# Altium schematic symbol library EMG_Frozen_Placed_R4.SchLib: 153 symbols (part 1 of 3)
Pins are listed as number, name and electrical type; pins without a type are passive.

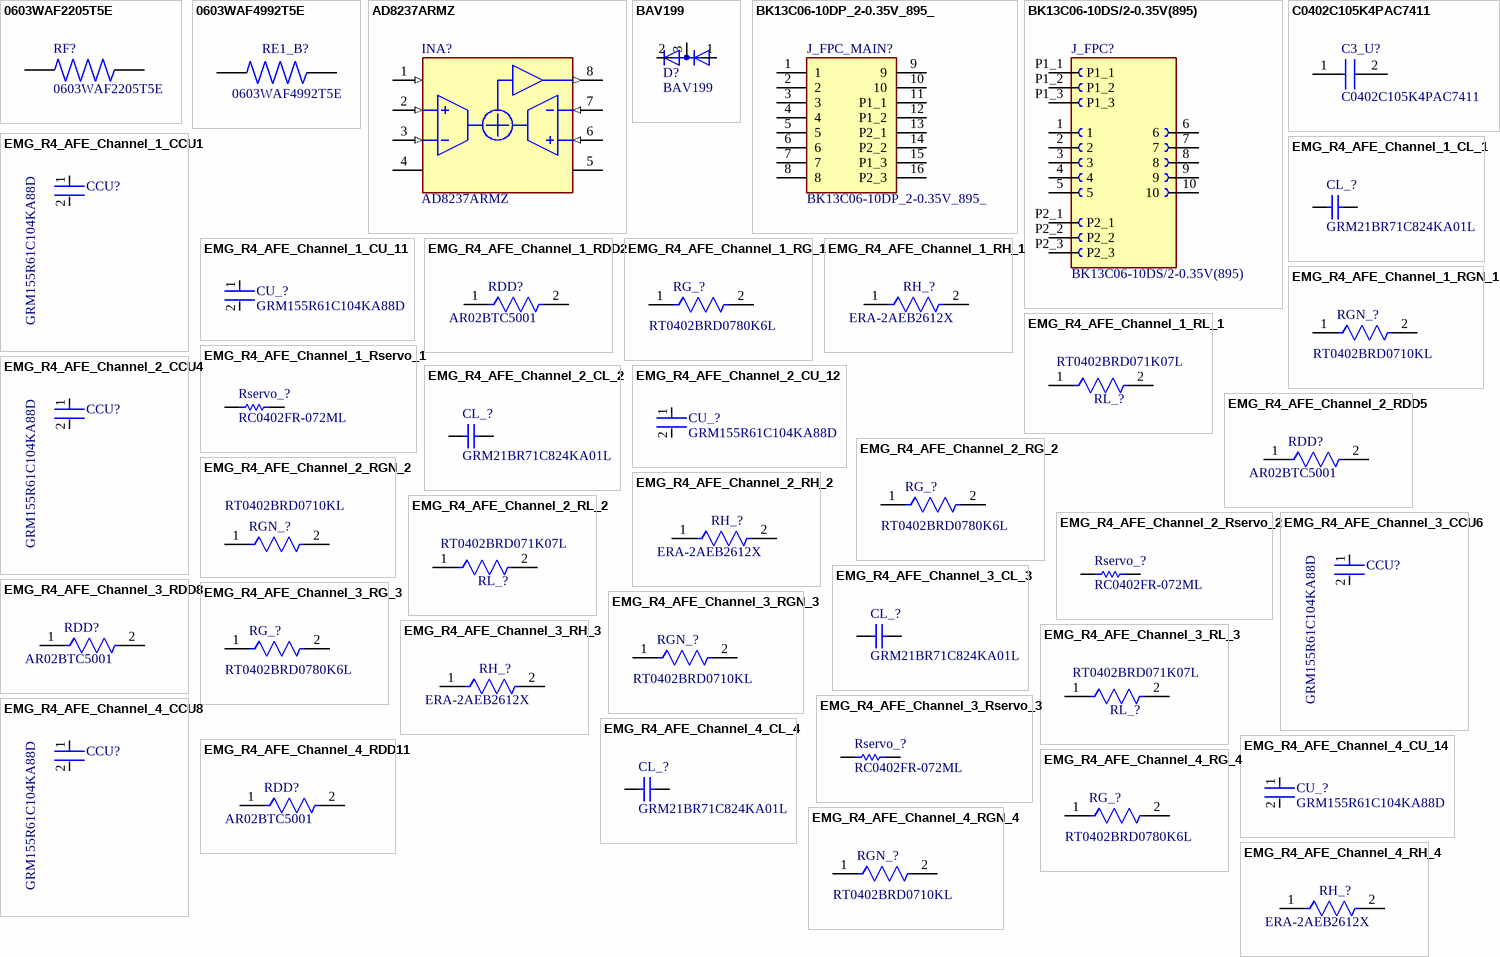
[diagram p0: symbols 0603WAF2205T5E to EMG_R4_AFE_Channel_4_RH_4]

## 0603WAF2205T5E
designator RF?
22M Ohm 1/10W Thick Film Resistor 0603 Chip - Surface Mount; MF: Uni-Royal; SnapEDA_Link: https://www.snapeda.com/parts/0603WAF2205T5E/Uni-Royal/view-part/?ref=snap; Package: 0603-2 ROYAL; Value: *; MP: 0603WAF2205T5E; Check_prices: https://www.snapeda.com/parts/0603WAF2205T5E/Uni-Royal/view-part/?ref=eda
footprint RESC1608X55N
pins: 1, 2

## 0603WAF4992T5E
designator RE1_B?
49.9K Ohm 1/10W Thick Film Resistor 0603 Chip - Surface Mount; MF: Uni-Royal; Package: None; Value: *; SnapEDA_Link: https://www.snapeda.com/parts/0603WAF4992T5E/Uni-Royal/view-part/?ref=snap; MP: 0603WAF4992T5E; Check_prices: https://www.snapeda.com/parts/0603WAF4992T5E/Uni-Royal/view-part/?ref=eda
footprint RESC1608X55N
pins: 1, 2

## AD8237ARMZ
designator INA?
Micropower, Zero Drift, True Rail-to-Rail Instrumentation Amplifier; MF: Analog Devices; EMG Library Revision: R3 2026-09-12; EMG_AD8237_R3_MSOP8; numeric pad IDs 1-8; Package: MSOP-8 Analog Devices; Price: None; Check_prices: https://www.snapeda.com/parts/AD8237ARMZ/Analog+Devices/view-part/?ref=eda; Value: *; SnapEDA_Link: https://www.snapeda.com/parts/AD8237ARMZ/Analog+Devices/view-part/?ref=snap; MP: AD8237ARMZ; Availability: In Stock; Purchase-URL: https://pricing.snapeda.com/search?q=AD8237ARMZ&ref=eda
footprint EMG_AD8237_R3_MSOP8 (R3 numeric pins 1-8; frozen project-local footprint; source geometry preserved)
pins: 1 BW (in), 2 +IN (in), 3 -IN (in), 4 -VS (power), 5 +VS (power), 6 REF (in), 7 FB (in), 8 VOUT (out)

## BAV199
designator D?
Small Signal Diode, SOT-23, 85V, 0.14A, 150Â°C; MF: Diotec Semiconductor; SnapEDA_Link: https://www.snapeda.com/parts/BAV199/Diotec/view-part/?ref=snap; Package: SOT-23 Diotec; Value: *; MP: BAV199; Check_prices: https://www.snapeda.com/parts/BAV199/Diotec/view-part/?ref=eda
footprint SOT23
pins: 1 A, 2 C, 3 AC

## BK13C06-10DP_2-0.35V_895_
designator J_FPC_MAIN?
Connector; Manufacturer_Name: Hirose; Manufacturer_Part_Number: BK13C06-10DP/2-0.35V(895); EMG Assembly Contract: Documentation/BK13_ASSEMBLY_CONTRACT.md; x-preserving face-to-face mate at BOTH ends; mechanical key required; Datasheet Link: https://www.hirose.com/en/product/document?clcode=CL0480-0719-0-95&productname=BK13C06-10DP%2f2-0.35V(895)&series=BK13C&documenttype=2DDrawing&lang=en&documentid=BK13C06-10DP2-0.35V(895)_4800719095_2D_ENG; Height: 0.575mm; Mouser Part Number: 798-BK13C0610DP35V89; Mouser Price/Stock: https://www.mouser.co.uk/ProductDetail/Hirose-Connector/BK13C06-10DP-2-0.35V895?qs=TuK3vfAjtkXiT58Jgwe%252BSA%3D%3D
footprint BK13C0610DP2035V895
pins: 1, 2, 3, 4, 5, 6, 7, 8, 9, 10, 11 P1_1, 12 P1_2, 13 P2_1, 14 P2_2, 15 P1_3, 16 P2_3

## BK13C06-10DS/2-0.35V(895)
designator J_FPC?
10 Position Connector Receptacle, Center Strip Contacts Surface Mount Gold; MF: Hirose Electric Co Ltd; SnapEDA_Link: https://www.snapeda.com/parts/BK13C06-10DS/2-0.35V(895)/Hirose+Electric+Co+Ltd/view-part/?ref=snap; Package: None; Value: *; MP: BK13C06-10DS/2-0.35V(895); Check_prices: https://www.snapeda.com/parts/BK13C06-10DS/2-0.35V(895)/Hirose+Electric+Co+Ltd/view-part/?ref=eda
footprint HIROSE_BK13C06-10DS/2-0.35V(895)
pins: 1, 2, 3, 4, 5, 6, 7, 8, 9, 10, P1_1 (power), P1_2 (power), P1_3 (power), P2_1 (power), P2_2 (power), P2_3 (power)

## C0402C105K4PAC7411
designator C3_U?
Capacitor; Manufacturer_Name: Yageo Group; Datasheet Link: https://content.kemet.com/datasheets/KEM_C1006_X5R_SMD.pdf; Height: 0.55mm; Manufacturer_Part_Number: C0402C105K4PAC7411; Mouser Part Number: 80-C0402C105K4P7411; Mouser Price/Stock: https://www.mouser.co.uk/ProductDetail/KEMET/C0402C105K4PAC7411?qs=rrS6PyfT74cOkAIybpa4eA%3D%3D
footprint C0402
pins: 1, 2

## EMG_R4_AFE_Channel_1_CCU1
designator CCU?, comment GRM155R61C104KA88D
CAP CER 0.1UF 16V X5R 0402; Tolerance: 10%; Capacitance: 100nF; Size: 0.5mm; Case Code (Imperial): 0402; Voltage: 16V; REACH SVHC: No SVHC; Packaging: Tape and Reel; Case/Package: 0402; Package Quantity: 1; Max Operating Temperature: 85°C; Voltage Rating (DC): 16V; Min Operating Temperature: -55°C; Construction: Flat; Mount: Surface Mount; Voltage Rating: 16V; Thickness: 0.022inch; Depth: 0.5mm; Termination: SMD/SMT; Length: 1mm; Height: 0.5mm; Series: GRM; Radiation Hardening: No; Width: 0.02inch; RoHS Compliant: Yes; Lead Free: Lead Free; Case Code (Metric): 1005; Dielectric: X5R
footprint FP-GRM155-0_05-IPC_C
footprint FP-GRM155-0_05-MFG
footprint FP-GRM155-0_05-IPC_B
footprint FP-GRM155-0_05-IPC_A
pins: 1, 2

## EMG_R4_AFE_Channel_1_CL_1
designator CL_?, comment GRM21BR71C824KA01L
Manufacturer: Murata; Part Number: GRM21BR71C824KA01L
footprint CAPC2013X135X45ML10T25 (Chip Capacitor, 2-Leads, Body 2.00x1.25mm, IPC Low Density)
footprint CAPC2013X135X45NL10T25 (Chip Capacitor, 2-Leads, Body 2.00x1.25mm, IPC Medium Density)
footprint CAPC2013X135X45LL10T25 (Chip Capacitor, 2-Leads, Body 2.00x1.25mm, IPC High Density)
pins: 1, 2
1 alternate drawing of the same symbol

## EMG_R4_AFE_Channel_1_CU_11
designator CU_?, comment GRM155R61C104KA88D
CAP CER 0.1UF 16V X5R 0402; Tolerance: 10%; Capacitance: 100nF; Size: 0.5mm; Case Code (Imperial): 0402; Voltage: 16V; REACH SVHC: No SVHC; Packaging: Tape and Reel; Case/Package: 0402; Package Quantity: 1; Max Operating Temperature: 85°C; Voltage Rating (DC): 16V; Min Operating Temperature: -55°C; Construction: Flat; Mount: Surface Mount; Voltage Rating: 16V; Thickness: 0.022inch; Depth: 0.5mm; Termination: SMD/SMT; Length: 1mm; Height: 0.5mm; Series: GRM; Radiation Hardening: No; Width: 0.02inch; RoHS Compliant: Yes; Lead Free: Lead Free; Case Code (Metric): 1005; Dielectric: X5R
footprint FP-GRM155-0_05-IPC_C
footprint FP-GRM155-0_05-MFG
footprint FP-GRM155-0_05-IPC_B
footprint FP-GRM155-0_05-IPC_A
pins: 1, 2

## EMG_R4_AFE_Channel_1_RDD2
designator RDD?, comment AR02BTC5001
-55℃~+155℃ 50V 5kΩ 63mW Thin Film Resistor ±0.1% ±25ppm/℃ 0402 Chip Resistor - Surface Mount ROH; Manufacturer: Viking Tech; Automotive Grade: Grade 0; Power Rating: 0.0625W; Resistance: 5KΩ; Automotive: No; Device Class L1: Passive Components; Temperature Range High: +155°C; ComponentLink2URL: https://jlc-prod-smt.oss-eu-central-1.aliyuncs.com/smtDataManualFile/8590916455515316224-C5948099.pdf?response-content-disposition=attachment%3B%20filename%3DC5948099.pdf%3B%20filename%2A%3DUTF-8%27%27C5948099.pdf&x-oss-date=20260909T005947Z&x-oss-expires=1800&x-oss-security-token=CAISgAN1q6Ft5B2yfSjIr5nQJuPk2K1px%2FCSUlD8vWssT%2Bdn24bA1Tz2IHhMdHJsAOodtv0%2FmmhT6PkclqRLcbhpcmfjV%2BZHzLB8qZ1ZlUIh557b16cNrbH4M4H6aXeirtuwDsz9SNTCALjPD3nPii50x5bjaDymRCbLGJaViJlhHLN1Ow6jdmhpCctxLAlvo9NgFxm3D%2Fu2NQPwiWf9FVdhvhEG6Vly8qOi2MaRmFy8yFTx0b0SvJ%2BjYMrmPctoN9JnSdC5mfdzau3a1TJ84gRD0a5wkaVA1zbDs5bfISEIuUzebreLqY03dV4mOvdqIcMe8qigz88fk%2FfIioH6xyxKOexoSCnFTOiiupCcQLPyao9jLu6iayqViY7QaIOTqQohZmkAMwVOasAsI3Ngh4zF97Qt0cVNkXO9gWfLI8DtuMleWgprSuQcm6HD0eS19jklBdzSlusJRAJJUVBflCeKEaRNSAd3WGhEfM2%2BBt4QT30w5N2u00S8OSMIGkRi2qKWD5sagAEjtbizx3MEky1DLyI4ifPDwN%2BIGIBkc%2FLU5ksiYJgLb%2FNSRKcBK2Y93tAQPnNnijpN7M2WdzU5isSZKkB7FW67%2B%2BgPO4c85aP9mk4GMQu9DUgOdQx8TAqhYZ0He9sP4T3tbQJlqCjO4glvV5R4tQYQWhzj0BeDLU%2Bxt0Bz2hoMLyAA&x-oss-signature-version=OSS4-HMAC-SHA256&x-oss-credential=STS.NZemYP5rHp2yPvMYkyChK4Ck7%2F20260909%2Feu-central-1%2Foss%2Faliyun_v4_request&x-oss-signature=d33844123a8227daea884b89a46460a2c851f65fd65a6a4b3f09a43ff9b63656; Footprint Url: https://jlc-prod-smt.oss-eu-central-1.aliyuncs.com/smtDataManualFile/8590916455515316224-C5948099.pdf?response-content-disposition=attachment%3B%20filename%3DC5948099.pdf%3B%20filename%2A%3DUTF-8%27%27C5948099.pdf&x-oss-date=20260909T005947Z&x-oss-expires=1800&x-oss-security-token=CAISgAN1q6Ft5B2yfSjIr5nQJuPk2K1px%2FCSUlD8vWssT%2Bdn24bA1Tz2IHhMdHJsAOodtv0%2FmmhT6PkclqRLcbhpcmfjV%2BZHzLB8qZ1ZlUIh557b16cNrbH4M4H6aXeirtuwDsz9SNTCALjPD3nPii50x5bjaDymRCbLGJaViJlhHLN1Ow6jdmhpCctxLAlvo9NgFxm3D%2Fu2NQPwiWf9FVdhvhEG6Vly8qOi2MaRmFy8yFTx0b0SvJ%2BjYMrmPctoN9JnSdC5mfdzau3a1TJ84gRD0a5wkaVA1zbDs5bfISEIuUzebreLqY03dV4mOvdqIcMe8qigz88fk%2FfIioH6xyxKOexoSCnFTOiiupCcQLPyao9jLu6iayqViY7QaIOTqQohZmkAMwVOasAsI3Ngh4zF97Qt0cVNkXO9gWfLI8DtuMleWgprSuQcm6HD0eS19jklBdzSlusJRAJJUVBflCeKEaRNSAd3WGhEfM2%2BBt4QT30w5N2u00S8OSMIGkRi2qKWD5sagAEjtbizx3MEky1DLyI4ifPDwN%2BIGIBkc%2FLU5ksiYJgLb%2FNSRKcBK2Y93tAQPnNnijpN7M2WdzU5isSZKkB7FW67%2B%2BgPO4c85aP9mk4GMQu9DUgOdQx8TAqhYZ0He9sP4T3tbQJlqCjO4glvV5R4tQYQWhzj0BeDLU%2Bxt0Bz2hoMLyAA&x-oss-signature-version=OSS4-HMAC-SHA256&x-oss-credential=STS.NZemYP5rHp2yPvMYkyChK4Ck7%2F20260909%2Feu-central-1%2Foss%2Faliyun_v4_request&x-oss-signature=d33844123a8227daea884b89a46460a2c851f65fd65a6a4b3f09a43ff9b63656; RoHS: TRUE; Category: Resistors/Chip Resistor - Surface Mount; Package: AR0402; Octopart: https://octopart.com/datasheet/viking-tech/AR02BTC5001; Device Class L2: Resistors; Series: AR; Voltage Rating: 50V; Height: 0.35mm; ComponentLink2Description: Datasheet; Lead Free: Yes; Temperature Range Low: -55°C; Value: 5KΩ; Temperature: -55°C to +155°C; Ipc Land Pattern Name: RESC10050X32; Device Class L3: Chip SMD Resistors; Manufacturer Part Number: AR02BTC5001; Composition: Thick Film; Tolerance: ±0.1%; LCSC Part: C5948099
footprint FP-AC0402-MFG
footprint FP-AC0402-IPC_C
footprint FP-AC0402-IPC_B
footprint FP-AC0402-IPC_A
pins: 1, 2

## EMG_R4_AFE_Channel_1_RG_1
designator RG_?, comment RT0402BRD0780K6L
RES SMD 80.6KOHM 0.1% 1/16W 0402; Manufacturer: Yageo; Power Rating: 0.063W; Temperature Coefficient: 25 ppm/°C; Resistance: 80.6KΩ; Voltage Rating: 50V; Tolerance: 0.001; Value: 80.6KΩ; Manufacturer Part Number: RT0402BRD0780K6L; Device Class L2: Resistors; Temperature Range Low: -55°C; Device Class L3: Chip SMD Resistors; Temperature: -55°C to +155°C; Ipc Land Pattern Name: RESC10050X30; Mouser Description: Thin Film Resistors 1/16W 80.6K ohm .1% 25ppm; Footprint Url: http://www.yageo.com/exep/pages/download/literatures/PYu-R_Mount_10.pdf; Lead Free: Yes; Category: Res; Composition: Thin Film; RoHS: TRUE; Octopart: https://octopart.com/rt0402brd0780k6l-yageo-1468076; Automotive: No; ComponentLink2Description: Datasheet; Package: RT0402; Digikey Description: RES SMD 80.6KOHM 0.1% 1/16W 0402; Height: 0.35mm; Temperature Range High: +155°C; Device Class L1: Passive Components; Series: RT; ComponentLink2URL: http://www.yageo.com/documents/recent/PYu-RT_1-to-0.01_RoHS_L_9.pdf
footprint FP-RT0402-MFG
footprint FP-RT0402-IPC_C
footprint FP-RT0402-IPC_B
footprint FP-RT0402-IPC_A
pins: 1, 2

## EMG_R4_AFE_Channel_1_RGN_1
designator RGN_?, comment RT0402BRD0710KL
RES 10.0K OHM 1/16W .1% SMD 0402; Manufacturer: Yageo; Value: 10KΩ; Voltage Rating: 50V; Power Rating: 0.063W; Temperature Coefficient: 25 ppm/°C; Tolerance: 0.001; Height: 0.35mm; Ipc Land Pattern Name: RESC10050X30; Device Class L1: Passive Components; Mouser Description: Thin Film Resistors - SMD 10K ohm 0.1% 1/16W; ComponentLink2URL: http://www.yageo.com/documents/recent/PYu-RT_1-to-0.01_RoHS_L_9.pdf; Automotive: No; Series: RT; Package: RT0402; ComponentLink2Description: Datasheet; Footprint Url: http://www.yageo.com/exep/pages/download/literatures/PYu-R_Mount_10.pdf; Digikey Description: RES 10.0K OHM 1/16W .1% SMD 0402; Resistance: 10KΩ; Temperature Range High: +155°C; Device Class L3: Chip SMD Resistors; Manufacturer Part Number: RT0402BRD0710KL; Lead Free: Yes; Category: Res; Device Class L2: Resistors; RoHS: TRUE; Temperature Range Low: -55°C; Composition: Thin Film; Temperature: -55°C to +155°C; Octopart: https://octopart.com/rt0402brd0710kl-yageo-1181432
footprint FP-RT0402-MFG
footprint FP-RT0402-IPC_C
footprint FP-RT0402-IPC_B
footprint FP-RT0402-IPC_A
pins: 1, 2

## EMG_R4_AFE_Channel_1_RH_1
designator RH_?, comment ERA-2AEB2612X
RES 26.1kΩ ±0.1% 0.063W 0402; Manufacturer: PANASONIC; Max Power Dissipation: 63mW; Temperature Coefficient: 25ppm/°C; Voltage Rating: 50V; Power Rating: 62.5mW; Resistance: 26.1kR; Number of Terminations: 2; Termination: SMD/SMT; Case Code (Metric): 1005; Case/Package: 0402; RoHS Compliant: Yes; Width: 0.5mm; Max Operating Temperature: 155°C; Case Code (Imperial): 0402; Packaging: Tape and Reel; Features: Moisture Resistant; Height: 0.015inch; Length: 0.039inch; Series: ERA-2A; Resistor Type: Thin Film; Min Operating Temperature: -55°C; Tolerance: 0.1%; JLCPCB Part: C2075472
footprint FP-AC0402-IPC_A
footprint FP-AC0402-IPC_C
footprint FP-AC0402-MFG
footprint FP-AC0402-IPC_B
pins: 1, 2

## EMG_R4_AFE_Channel_1_RL_1
designator RL_?, comment RT0402BRD071K07L
RES SMD 1.07K OHM 0.1% 1/16W; Manufacturer: Yageo; Resistance: 1.07KΩ; Voltage Rating: 50V; Value: 1.07KΩ; Temperature Coefficient: 25 ppm/°C; Tolerance: 0.001; Power Rating: 0.063W; Composition: Thin Film; Height: 0.35mm; Octopart: https://octopart.com/rt0402brd071k07l-yageo-1400807; Package: RT0402; Device Class L3: Chip SMD Resistors; Manufacturer Part Number: RT0402BRD071K07L; ComponentLink2Description: Datasheet; Lead Free: Yes; Automotive: No; Device Class L1: Passive Components; Temperature Range Low: -55°C; RoHS: TRUE; Category: Res; Temperature Range High: +155°C; Mouser Description: Thin Film Resistors 1/16W 1.07K ohm .1% 25ppm; Device Class L2: Resistors; Digikey Description: RES SMD 1.07K OHM 0.1% 1/16W; Footprint Url: http://www.yageo.com/exep/pages/download/literatures/PYu-R_Mount_10.pdf; ComponentLink2URL: http://www.yageo.com/documents/recent/PYu-RT_1-to-0.01_RoHS_L_9.pdf; Ipc Land Pattern Name: RESC10050X30; Series: RT; Temperature: -55°C to +155°C
footprint FP-RT0402-MFG
footprint FP-RT0402-IPC_C
footprint FP-RT0402-IPC_B
footprint FP-RT0402-IPC_A
pins: 1, 2

## EMG_R4_AFE_Channel_1_Rservo_1
designator Rservo_?, comment RC0402FR-072ML
Manufacturer: Yageo / Phycomp; Part Number: RC0402FR-072ML
footprint RESC1005X40X25NL05T10 (Chip Resistor, 2-Leads, Body 1.00x0.50mm, IPC Medium Density)
footprint RESC1005X40X25LL05T10 (Chip Resistor, 2-Leads, Body 1.00x0.50mm, IPC High Density)
footprint RESC1005X40X25ML05T10 (Chip Resistor, 2-Leads, Body 1.00x0.50mm, IPC Low Density)
pins: 1, 2
1 alternate drawing of the same symbol

## EMG_R4_AFE_Channel_2_CCU4
designator CCU?, comment GRM155R61C104KA88D
CAP CER 0.1UF 16V X5R 0402; Tolerance: 10%; Capacitance: 100nF; Size: 0.5mm; Case Code (Imperial): 0402; Voltage: 16V; REACH SVHC: No SVHC; Packaging: Tape and Reel; Case/Package: 0402; Package Quantity: 1; Max Operating Temperature: 85°C; Voltage Rating (DC): 16V; Min Operating Temperature: -55°C; Construction: Flat; Mount: Surface Mount; Voltage Rating: 16V; Thickness: 0.022inch; Depth: 0.5mm; Termination: SMD/SMT; Length: 1mm; Height: 0.5mm; Series: GRM; Radiation Hardening: No; Width: 0.02inch; RoHS Compliant: Yes; Lead Free: Lead Free; Case Code (Metric): 1005; Dielectric: X5R
footprint FP-GRM155-0_05-IPC_C
footprint FP-GRM155-0_05-MFG
footprint FP-GRM155-0_05-IPC_B
footprint FP-GRM155-0_05-IPC_A
pins: 1, 2

## EMG_R4_AFE_Channel_2_CL_2
designator CL_?, comment GRM21BR71C824KA01L
Manufacturer: Murata; Part Number: GRM21BR71C824KA01L
footprint CAPC2013X135X45ML10T25 (Chip Capacitor, 2-Leads, Body 2.00x1.25mm, IPC Low Density)
footprint CAPC2013X135X45NL10T25 (Chip Capacitor, 2-Leads, Body 2.00x1.25mm, IPC Medium Density)
footprint CAPC2013X135X45LL10T25 (Chip Capacitor, 2-Leads, Body 2.00x1.25mm, IPC High Density)
pins: 1, 2
1 alternate drawing of the same symbol

## EMG_R4_AFE_Channel_2_CU_12
designator CU_?, comment GRM155R61C104KA88D
CAP CER 0.1UF 16V X5R 0402; Tolerance: 10%; Capacitance: 100nF; Size: 0.5mm; Case Code (Imperial): 0402; Voltage: 16V; REACH SVHC: No SVHC; Packaging: Tape and Reel; Case/Package: 0402; Package Quantity: 1; Max Operating Temperature: 85°C; Voltage Rating (DC): 16V; Min Operating Temperature: -55°C; Construction: Flat; Mount: Surface Mount; Voltage Rating: 16V; Thickness: 0.022inch; Depth: 0.5mm; Termination: SMD/SMT; Length: 1mm; Height: 0.5mm; Series: GRM; Radiation Hardening: No; Width: 0.02inch; RoHS Compliant: Yes; Lead Free: Lead Free; Case Code (Metric): 1005; Dielectric: X5R
footprint FP-GRM155-0_05-IPC_C
footprint FP-GRM155-0_05-MFG
footprint FP-GRM155-0_05-IPC_B
footprint FP-GRM155-0_05-IPC_A
pins: 1, 2

## EMG_R4_AFE_Channel_2_RDD5
designator RDD?, comment AR02BTC5001
-55℃~+155℃ 50V 5kΩ 63mW Thin Film Resistor ±0.1% ±25ppm/℃ 0402 Chip Resistor - Surface Mount ROH; Manufacturer: Viking Tech; Automotive Grade: Grade 0; Power Rating: 0.0625W; Resistance: 5KΩ; Automotive: No; Device Class L1: Passive Components; Temperature Range High: +155°C; ComponentLink2URL: https://jlc-prod-smt.oss-eu-central-1.aliyuncs.com/smtDataManualFile/8590916455515316224-C5948099.pdf?response-content-disposition=attachment%3B%20filename%3DC5948099.pdf%3B%20filename%2A%3DUTF-8%27%27C5948099.pdf&x-oss-date=20260909T005947Z&x-oss-expires=1800&x-oss-security-token=CAISgAN1q6Ft5B2yfSjIr5nQJuPk2K1px%2FCSUlD8vWssT%2Bdn24bA1Tz2IHhMdHJsAOodtv0%2FmmhT6PkclqRLcbhpcmfjV%2BZHzLB8qZ1ZlUIh557b16cNrbH4M4H6aXeirtuwDsz9SNTCALjPD3nPii50x5bjaDymRCbLGJaViJlhHLN1Ow6jdmhpCctxLAlvo9NgFxm3D%2Fu2NQPwiWf9FVdhvhEG6Vly8qOi2MaRmFy8yFTx0b0SvJ%2BjYMrmPctoN9JnSdC5mfdzau3a1TJ84gRD0a5wkaVA1zbDs5bfISEIuUzebreLqY03dV4mOvdqIcMe8qigz88fk%2FfIioH6xyxKOexoSCnFTOiiupCcQLPyao9jLu6iayqViY7QaIOTqQohZmkAMwVOasAsI3Ngh4zF97Qt0cVNkXO9gWfLI8DtuMleWgprSuQcm6HD0eS19jklBdzSlusJRAJJUVBflCeKEaRNSAd3WGhEfM2%2BBt4QT30w5N2u00S8OSMIGkRi2qKWD5sagAEjtbizx3MEky1DLyI4ifPDwN%2BIGIBkc%2FLU5ksiYJgLb%2FNSRKcBK2Y93tAQPnNnijpN7M2WdzU5isSZKkB7FW67%2B%2BgPO4c85aP9mk4GMQu9DUgOdQx8TAqhYZ0He9sP4T3tbQJlqCjO4glvV5R4tQYQWhzj0BeDLU%2Bxt0Bz2hoMLyAA&x-oss-signature-version=OSS4-HMAC-SHA256&x-oss-credential=STS.NZemYP5rHp2yPvMYkyChK4Ck7%2F20260909%2Feu-central-1%2Foss%2Faliyun_v4_request&x-oss-signature=d33844123a8227daea884b89a46460a2c851f65fd65a6a4b3f09a43ff9b63656; Footprint Url: https://jlc-prod-smt.oss-eu-central-1.aliyuncs.com/smtDataManualFile/8590916455515316224-C5948099.pdf?response-content-disposition=attachment%3B%20filename%3DC5948099.pdf%3B%20filename%2A%3DUTF-8%27%27C5948099.pdf&x-oss-date=20260909T005947Z&x-oss-expires=1800&x-oss-security-token=CAISgAN1q6Ft5B2yfSjIr5nQJuPk2K1px%2FCSUlD8vWssT%2Bdn24bA1Tz2IHhMdHJsAOodtv0%2FmmhT6PkclqRLcbhpcmfjV%2BZHzLB8qZ1ZlUIh557b16cNrbH4M4H6aXeirtuwDsz9SNTCALjPD3nPii50x5bjaDymRCbLGJaViJlhHLN1Ow6jdmhpCctxLAlvo9NgFxm3D%2Fu2NQPwiWf9FVdhvhEG6Vly8qOi2MaRmFy8yFTx0b0SvJ%2BjYMrmPctoN9JnSdC5mfdzau3a1TJ84gRD0a5wkaVA1zbDs5bfISEIuUzebreLqY03dV4mOvdqIcMe8qigz88fk%2FfIioH6xyxKOexoSCnFTOiiupCcQLPyao9jLu6iayqViY7QaIOTqQohZmkAMwVOasAsI3Ngh4zF97Qt0cVNkXO9gWfLI8DtuMleWgprSuQcm6HD0eS19jklBdzSlusJRAJJUVBflCeKEaRNSAd3WGhEfM2%2BBt4QT30w5N2u00S8OSMIGkRi2qKWD5sagAEjtbizx3MEky1DLyI4ifPDwN%2BIGIBkc%2FLU5ksiYJgLb%2FNSRKcBK2Y93tAQPnNnijpN7M2WdzU5isSZKkB7FW67%2B%2BgPO4c85aP9mk4GMQu9DUgOdQx8TAqhYZ0He9sP4T3tbQJlqCjO4glvV5R4tQYQWhzj0BeDLU%2Bxt0Bz2hoMLyAA&x-oss-signature-version=OSS4-HMAC-SHA256&x-oss-credential=STS.NZemYP5rHp2yPvMYkyChK4Ck7%2F20260909%2Feu-central-1%2Foss%2Faliyun_v4_request&x-oss-signature=d33844123a8227daea884b89a46460a2c851f65fd65a6a4b3f09a43ff9b63656; RoHS: TRUE; Category: Resistors/Chip Resistor - Surface Mount; Package: AR0402; Octopart: https://octopart.com/datasheet/viking-tech/AR02BTC5001; Device Class L2: Resistors; Series: AR; Voltage Rating: 50V; Height: 0.35mm; ComponentLink2Description: Datasheet; Lead Free: Yes; Temperature Range Low: -55°C; Value: 5KΩ; Temperature: -55°C to +155°C; Ipc Land Pattern Name: RESC10050X32; Device Class L3: Chip SMD Resistors; Manufacturer Part Number: AR02BTC5001; Composition: Thick Film; Tolerance: ±0.1%; LCSC Part: C5948099
footprint FP-AC0402-MFG
footprint FP-AC0402-IPC_C
footprint FP-AC0402-IPC_B
footprint FP-AC0402-IPC_A
pins: 1, 2

## EMG_R4_AFE_Channel_2_RG_2
designator RG_?, comment RT0402BRD0780K6L
RES SMD 80.6KOHM 0.1% 1/16W 0402; Manufacturer: Yageo; Power Rating: 0.063W; Temperature Coefficient: 25 ppm/°C; Resistance: 80.6KΩ; Voltage Rating: 50V; Tolerance: 0.001; Value: 80.6KΩ; Manufacturer Part Number: RT0402BRD0780K6L; Device Class L2: Resistors; Temperature Range Low: -55°C; Device Class L3: Chip SMD Resistors; Temperature: -55°C to +155°C; Ipc Land Pattern Name: RESC10050X30; Mouser Description: Thin Film Resistors 1/16W 80.6K ohm .1% 25ppm; Footprint Url: http://www.yageo.com/exep/pages/download/literatures/PYu-R_Mount_10.pdf; Lead Free: Yes; Category: Res; Composition: Thin Film; RoHS: TRUE; Octopart: https://octopart.com/rt0402brd0780k6l-yageo-1468076; Automotive: No; ComponentLink2Description: Datasheet; Package: RT0402; Digikey Description: RES SMD 80.6KOHM 0.1% 1/16W 0402; Height: 0.35mm; Temperature Range High: +155°C; Device Class L1: Passive Components; Series: RT; ComponentLink2URL: http://www.yageo.com/documents/recent/PYu-RT_1-to-0.01_RoHS_L_9.pdf
footprint FP-RT0402-MFG
footprint FP-RT0402-IPC_C
footprint FP-RT0402-IPC_B
footprint FP-RT0402-IPC_A
pins: 1, 2

## EMG_R4_AFE_Channel_2_RGN_2
designator RGN_?, comment RT0402BRD0710KL
RES 10.0K OHM 1/16W .1% SMD 0402; Manufacturer: Yageo; Value: 10KΩ; Voltage Rating: 50V; Power Rating: 0.063W; Temperature Coefficient: 25 ppm/°C; Tolerance: 0.001; Height: 0.35mm; Ipc Land Pattern Name: RESC10050X30; Device Class L1: Passive Components; Mouser Description: Thin Film Resistors - SMD 10K ohm 0.1% 1/16W; ComponentLink2URL: http://www.yageo.com/documents/recent/PYu-RT_1-to-0.01_RoHS_L_9.pdf; Automotive: No; Series: RT; Package: RT0402; ComponentLink2Description: Datasheet; Footprint Url: http://www.yageo.com/exep/pages/download/literatures/PYu-R_Mount_10.pdf; Digikey Description: RES 10.0K OHM 1/16W .1% SMD 0402; Resistance: 10KΩ; Temperature Range High: +155°C; Device Class L3: Chip SMD Resistors; Manufacturer Part Number: RT0402BRD0710KL; Lead Free: Yes; Category: Res; Device Class L2: Resistors; RoHS: TRUE; Temperature Range Low: -55°C; Composition: Thin Film; Temperature: -55°C to +155°C; Octopart: https://octopart.com/rt0402brd0710kl-yageo-1181432
footprint FP-RT0402-MFG
footprint FP-RT0402-IPC_C
footprint FP-RT0402-IPC_B
footprint FP-RT0402-IPC_A
pins: 1, 2

## EMG_R4_AFE_Channel_2_RH_2
designator RH_?, comment ERA-2AEB2612X
RES 26.1kΩ ±0.1% 0.063W 0402; Manufacturer: PANASONIC; Max Power Dissipation: 63mW; Temperature Coefficient: 25ppm/°C; Voltage Rating: 50V; Power Rating: 62.5mW; Resistance: 26.1kR; Number of Terminations: 2; Termination: SMD/SMT; Case Code (Metric): 1005; Case/Package: 0402; RoHS Compliant: Yes; Width: 0.5mm; Max Operating Temperature: 155°C; Case Code (Imperial): 0402; Packaging: Tape and Reel; Features: Moisture Resistant; Height: 0.015inch; Length: 0.039inch; Series: ERA-2A; Resistor Type: Thin Film; Min Operating Temperature: -55°C; Tolerance: 0.1%; JLCPCB Part: C2075472
footprint FP-AC0402-IPC_A
footprint FP-AC0402-IPC_C
footprint FP-AC0402-MFG
footprint FP-AC0402-IPC_B
pins: 1, 2

## EMG_R4_AFE_Channel_2_RL_2
designator RL_?, comment RT0402BRD071K07L
RES SMD 1.07K OHM 0.1% 1/16W; Manufacturer: Yageo; Resistance: 1.07KΩ; Voltage Rating: 50V; Value: 1.07KΩ; Temperature Coefficient: 25 ppm/°C; Tolerance: 0.001; Power Rating: 0.063W; Composition: Thin Film; Height: 0.35mm; Octopart: https://octopart.com/rt0402brd071k07l-yageo-1400807; Package: RT0402; Device Class L3: Chip SMD Resistors; Manufacturer Part Number: RT0402BRD071K07L; ComponentLink2Description: Datasheet; Lead Free: Yes; Automotive: No; Device Class L1: Passive Components; Temperature Range Low: -55°C; RoHS: TRUE; Category: Res; Temperature Range High: +155°C; Mouser Description: Thin Film Resistors 1/16W 1.07K ohm .1% 25ppm; Device Class L2: Resistors; Digikey Description: RES SMD 1.07K OHM 0.1% 1/16W; Footprint Url: http://www.yageo.com/exep/pages/download/literatures/PYu-R_Mount_10.pdf; ComponentLink2URL: http://www.yageo.com/documents/recent/PYu-RT_1-to-0.01_RoHS_L_9.pdf; Ipc Land Pattern Name: RESC10050X30; Series: RT; Temperature: -55°C to +155°C
footprint FP-RT0402-MFG
footprint FP-RT0402-IPC_C
footprint FP-RT0402-IPC_B
footprint FP-RT0402-IPC_A
pins: 1, 2

## EMG_R4_AFE_Channel_2_Rservo_2
designator Rservo_?, comment RC0402FR-072ML
Manufacturer: Yageo / Phycomp; Part Number: RC0402FR-072ML
footprint RESC1005X40X25NL05T10 (Chip Resistor, 2-Leads, Body 1.00x0.50mm, IPC Medium Density)
footprint RESC1005X40X25LL05T10 (Chip Resistor, 2-Leads, Body 1.00x0.50mm, IPC High Density)
footprint RESC1005X40X25ML05T10 (Chip Resistor, 2-Leads, Body 1.00x0.50mm, IPC Low Density)
pins: 1, 2
1 alternate drawing of the same symbol

## EMG_R4_AFE_Channel_3_CCU6
designator CCU?, comment GRM155R61C104KA88D
CAP CER 0.1UF 16V X5R 0402; Tolerance: 10%; Capacitance: 100nF; Size: 0.5mm; Case Code (Imperial): 0402; Voltage: 16V; REACH SVHC: No SVHC; Packaging: Tape and Reel; Case/Package: 0402; Package Quantity: 1; Max Operating Temperature: 85°C; Voltage Rating (DC): 16V; Min Operating Temperature: -55°C; Construction: Flat; Mount: Surface Mount; Voltage Rating: 16V; Thickness: 0.022inch; Depth: 0.5mm; Termination: SMD/SMT; Length: 1mm; Height: 0.5mm; Series: GRM; Radiation Hardening: No; Width: 0.02inch; RoHS Compliant: Yes; Lead Free: Lead Free; Case Code (Metric): 1005; Dielectric: X5R
footprint FP-GRM155-0_05-IPC_C
footprint FP-GRM155-0_05-MFG
footprint FP-GRM155-0_05-IPC_B
footprint FP-GRM155-0_05-IPC_A
pins: 1, 2

## EMG_R4_AFE_Channel_3_CL_3
designator CL_?, comment GRM21BR71C824KA01L
Manufacturer: Murata; Part Number: GRM21BR71C824KA01L
footprint CAPC2013X135X45ML10T25 (Chip Capacitor, 2-Leads, Body 2.00x1.25mm, IPC Low Density)
footprint CAPC2013X135X45NL10T25 (Chip Capacitor, 2-Leads, Body 2.00x1.25mm, IPC Medium Density)
footprint CAPC2013X135X45LL10T25 (Chip Capacitor, 2-Leads, Body 2.00x1.25mm, IPC High Density)
pins: 1, 2
1 alternate drawing of the same symbol

## EMG_R4_AFE_Channel_3_RDD8
designator RDD?, comment AR02BTC5001
-55℃~+155℃ 50V 5kΩ 63mW Thin Film Resistor ±0.1% ±25ppm/℃ 0402 Chip Resistor - Surface Mount ROH; Manufacturer: Viking Tech; Automotive Grade: Grade 0; Power Rating: 0.0625W; Resistance: 5KΩ; Automotive: No; Device Class L1: Passive Components; Temperature Range High: +155°C; ComponentLink2URL: https://jlc-prod-smt.oss-eu-central-1.aliyuncs.com/smtDataManualFile/8590916455515316224-C5948099.pdf?response-content-disposition=attachment%3B%20filename%3DC5948099.pdf%3B%20filename%2A%3DUTF-8%27%27C5948099.pdf&x-oss-date=20260909T005947Z&x-oss-expires=1800&x-oss-security-token=CAISgAN1q6Ft5B2yfSjIr5nQJuPk2K1px%2FCSUlD8vWssT%2Bdn24bA1Tz2IHhMdHJsAOodtv0%2FmmhT6PkclqRLcbhpcmfjV%2BZHzLB8qZ1ZlUIh557b16cNrbH4M4H6aXeirtuwDsz9SNTCALjPD3nPii50x5bjaDymRCbLGJaViJlhHLN1Ow6jdmhpCctxLAlvo9NgFxm3D%2Fu2NQPwiWf9FVdhvhEG6Vly8qOi2MaRmFy8yFTx0b0SvJ%2BjYMrmPctoN9JnSdC5mfdzau3a1TJ84gRD0a5wkaVA1zbDs5bfISEIuUzebreLqY03dV4mOvdqIcMe8qigz88fk%2FfIioH6xyxKOexoSCnFTOiiupCcQLPyao9jLu6iayqViY7QaIOTqQohZmkAMwVOasAsI3Ngh4zF97Qt0cVNkXO9gWfLI8DtuMleWgprSuQcm6HD0eS19jklBdzSlusJRAJJUVBflCeKEaRNSAd3WGhEfM2%2BBt4QT30w5N2u00S8OSMIGkRi2qKWD5sagAEjtbizx3MEky1DLyI4ifPDwN%2BIGIBkc%2FLU5ksiYJgLb%2FNSRKcBK2Y93tAQPnNnijpN7M2WdzU5isSZKkB7FW67%2B%2BgPO4c85aP9mk4GMQu9DUgOdQx8TAqhYZ0He9sP4T3tbQJlqCjO4glvV5R4tQYQWhzj0BeDLU%2Bxt0Bz2hoMLyAA&x-oss-signature-version=OSS4-HMAC-SHA256&x-oss-credential=STS.NZemYP5rHp2yPvMYkyChK4Ck7%2F20260909%2Feu-central-1%2Foss%2Faliyun_v4_request&x-oss-signature=d33844123a8227daea884b89a46460a2c851f65fd65a6a4b3f09a43ff9b63656; Footprint Url: https://jlc-prod-smt.oss-eu-central-1.aliyuncs.com/smtDataManualFile/8590916455515316224-C5948099.pdf?response-content-disposition=attachment%3B%20filename%3DC5948099.pdf%3B%20filename%2A%3DUTF-8%27%27C5948099.pdf&x-oss-date=20260909T005947Z&x-oss-expires=1800&x-oss-security-token=CAISgAN1q6Ft5B2yfSjIr5nQJuPk2K1px%2FCSUlD8vWssT%2Bdn24bA1Tz2IHhMdHJsAOodtv0%2FmmhT6PkclqRLcbhpcmfjV%2BZHzLB8qZ1ZlUIh557b16cNrbH4M4H6aXeirtuwDsz9SNTCALjPD3nPii50x5bjaDymRCbLGJaViJlhHLN1Ow6jdmhpCctxLAlvo9NgFxm3D%2Fu2NQPwiWf9FVdhvhEG6Vly8qOi2MaRmFy8yFTx0b0SvJ%2BjYMrmPctoN9JnSdC5mfdzau3a1TJ84gRD0a5wkaVA1zbDs5bfISEIuUzebreLqY03dV4mOvdqIcMe8qigz88fk%2FfIioH6xyxKOexoSCnFTOiiupCcQLPyao9jLu6iayqViY7QaIOTqQohZmkAMwVOasAsI3Ngh4zF97Qt0cVNkXO9gWfLI8DtuMleWgprSuQcm6HD0eS19jklBdzSlusJRAJJUVBflCeKEaRNSAd3WGhEfM2%2BBt4QT30w5N2u00S8OSMIGkRi2qKWD5sagAEjtbizx3MEky1DLyI4ifPDwN%2BIGIBkc%2FLU5ksiYJgLb%2FNSRKcBK2Y93tAQPnNnijpN7M2WdzU5isSZKkB7FW67%2B%2BgPO4c85aP9mk4GMQu9DUgOdQx8TAqhYZ0He9sP4T3tbQJlqCjO4glvV5R4tQYQWhzj0BeDLU%2Bxt0Bz2hoMLyAA&x-oss-signature-version=OSS4-HMAC-SHA256&x-oss-credential=STS.NZemYP5rHp2yPvMYkyChK4Ck7%2F20260909%2Feu-central-1%2Foss%2Faliyun_v4_request&x-oss-signature=d33844123a8227daea884b89a46460a2c851f65fd65a6a4b3f09a43ff9b63656; RoHS: TRUE; Category: Resistors/Chip Resistor - Surface Mount; Package: AR0402; Octopart: https://octopart.com/datasheet/viking-tech/AR02BTC5001; Device Class L2: Resistors; Series: AR; Voltage Rating: 50V; Height: 0.35mm; ComponentLink2Description: Datasheet; Lead Free: Yes; Temperature Range Low: -55°C; Value: 5KΩ; Temperature: -55°C to +155°C; Ipc Land Pattern Name: RESC10050X32; Device Class L3: Chip SMD Resistors; Manufacturer Part Number: AR02BTC5001; Composition: Thick Film; Tolerance: ±0.1%; LCSC Part: C5948099
footprint FP-AC0402-MFG
footprint FP-AC0402-IPC_C
footprint FP-AC0402-IPC_B
footprint FP-AC0402-IPC_A
pins: 1, 2

## EMG_R4_AFE_Channel_3_RG_3
designator RG_?, comment RT0402BRD0780K6L
RES SMD 80.6KOHM 0.1% 1/16W 0402; Manufacturer: Yageo; Power Rating: 0.063W; Temperature Coefficient: 25 ppm/°C; Resistance: 80.6KΩ; Voltage Rating: 50V; Tolerance: 0.001; Value: 80.6KΩ; Manufacturer Part Number: RT0402BRD0780K6L; Device Class L2: Resistors; Temperature Range Low: -55°C; Device Class L3: Chip SMD Resistors; Temperature: -55°C to +155°C; Ipc Land Pattern Name: RESC10050X30; Mouser Description: Thin Film Resistors 1/16W 80.6K ohm .1% 25ppm; Footprint Url: http://www.yageo.com/exep/pages/download/literatures/PYu-R_Mount_10.pdf; Lead Free: Yes; Category: Res; Composition: Thin Film; RoHS: TRUE; Octopart: https://octopart.com/rt0402brd0780k6l-yageo-1468076; Automotive: No; ComponentLink2Description: Datasheet; Package: RT0402; Digikey Description: RES SMD 80.6KOHM 0.1% 1/16W 0402; Height: 0.35mm; Temperature Range High: +155°C; Device Class L1: Passive Components; Series: RT; ComponentLink2URL: http://www.yageo.com/documents/recent/PYu-RT_1-to-0.01_RoHS_L_9.pdf
footprint FP-RT0402-MFG
footprint FP-RT0402-IPC_C
footprint FP-RT0402-IPC_B
footprint FP-RT0402-IPC_A
pins: 1, 2

## EMG_R4_AFE_Channel_3_RGN_3
designator RGN_?, comment RT0402BRD0710KL
RES 10.0K OHM 1/16W .1% SMD 0402; Manufacturer: Yageo; Value: 10KΩ; Voltage Rating: 50V; Power Rating: 0.063W; Temperature Coefficient: 25 ppm/°C; Tolerance: 0.001; Height: 0.35mm; Ipc Land Pattern Name: RESC10050X30; Device Class L1: Passive Components; Mouser Description: Thin Film Resistors - SMD 10K ohm 0.1% 1/16W; ComponentLink2URL: http://www.yageo.com/documents/recent/PYu-RT_1-to-0.01_RoHS_L_9.pdf; Automotive: No; Series: RT; Package: RT0402; ComponentLink2Description: Datasheet; Footprint Url: http://www.yageo.com/exep/pages/download/literatures/PYu-R_Mount_10.pdf; Digikey Description: RES 10.0K OHM 1/16W .1% SMD 0402; Resistance: 10KΩ; Temperature Range High: +155°C; Device Class L3: Chip SMD Resistors; Manufacturer Part Number: RT0402BRD0710KL; Lead Free: Yes; Category: Res; Device Class L2: Resistors; RoHS: TRUE; Temperature Range Low: -55°C; Composition: Thin Film; Temperature: -55°C to +155°C; Octopart: https://octopart.com/rt0402brd0710kl-yageo-1181432
footprint FP-RT0402-MFG
footprint FP-RT0402-IPC_C
footprint FP-RT0402-IPC_B
footprint FP-RT0402-IPC_A
pins: 1, 2

## EMG_R4_AFE_Channel_3_RH_3
designator RH_?, comment ERA-2AEB2612X
RES 26.1kΩ ±0.1% 0.063W 0402; Manufacturer: PANASONIC; Max Power Dissipation: 63mW; Temperature Coefficient: 25ppm/°C; Voltage Rating: 50V; Power Rating: 62.5mW; Resistance: 26.1kR; Number of Terminations: 2; Termination: SMD/SMT; Case Code (Metric): 1005; Case/Package: 0402; RoHS Compliant: Yes; Width: 0.5mm; Max Operating Temperature: 155°C; Case Code (Imperial): 0402; Packaging: Tape and Reel; Features: Moisture Resistant; Height: 0.015inch; Length: 0.039inch; Series: ERA-2A; Resistor Type: Thin Film; Min Operating Temperature: -55°C; Tolerance: 0.1%; JLCPCB Part: C2075472
footprint FP-AC0402-IPC_A
footprint FP-AC0402-IPC_C
footprint FP-AC0402-MFG
footprint FP-AC0402-IPC_B
pins: 1, 2

## EMG_R4_AFE_Channel_3_RL_3
designator RL_?, comment RT0402BRD071K07L
RES SMD 1.07K OHM 0.1% 1/16W; Manufacturer: Yageo; Resistance: 1.07KΩ; Voltage Rating: 50V; Value: 1.07KΩ; Temperature Coefficient: 25 ppm/°C; Tolerance: 0.001; Power Rating: 0.063W; Composition: Thin Film; Height: 0.35mm; Octopart: https://octopart.com/rt0402brd071k07l-yageo-1400807; Package: RT0402; Device Class L3: Chip SMD Resistors; Manufacturer Part Number: RT0402BRD071K07L; ComponentLink2Description: Datasheet; Lead Free: Yes; Automotive: No; Device Class L1: Passive Components; Temperature Range Low: -55°C; RoHS: TRUE; Category: Res; Temperature Range High: +155°C; Mouser Description: Thin Film Resistors 1/16W 1.07K ohm .1% 25ppm; Device Class L2: Resistors; Digikey Description: RES SMD 1.07K OHM 0.1% 1/16W; Footprint Url: http://www.yageo.com/exep/pages/download/literatures/PYu-R_Mount_10.pdf; ComponentLink2URL: http://www.yageo.com/documents/recent/PYu-RT_1-to-0.01_RoHS_L_9.pdf; Ipc Land Pattern Name: RESC10050X30; Series: RT; Temperature: -55°C to +155°C
footprint FP-RT0402-MFG
footprint FP-RT0402-IPC_C
footprint FP-RT0402-IPC_B
footprint FP-RT0402-IPC_A
pins: 1, 2

## EMG_R4_AFE_Channel_3_Rservo_3
designator Rservo_?, comment RC0402FR-072ML
Manufacturer: Yageo / Phycomp; Part Number: RC0402FR-072ML
footprint RESC1005X40X25NL05T10 (Chip Resistor, 2-Leads, Body 1.00x0.50mm, IPC Medium Density)
footprint RESC1005X40X25LL05T10 (Chip Resistor, 2-Leads, Body 1.00x0.50mm, IPC High Density)
footprint RESC1005X40X25ML05T10 (Chip Resistor, 2-Leads, Body 1.00x0.50mm, IPC Low Density)
pins: 1, 2
1 alternate drawing of the same symbol

## EMG_R4_AFE_Channel_4_CCU8
designator CCU?, comment GRM155R61C104KA88D
CAP CER 0.1UF 16V X5R 0402; Tolerance: 10%; Capacitance: 100nF; Size: 0.5mm; Case Code (Imperial): 0402; Voltage: 16V; REACH SVHC: No SVHC; Packaging: Tape and Reel; Case/Package: 0402; Package Quantity: 1; Max Operating Temperature: 85°C; Voltage Rating (DC): 16V; Min Operating Temperature: -55°C; Construction: Flat; Mount: Surface Mount; Voltage Rating: 16V; Thickness: 0.022inch; Depth: 0.5mm; Termination: SMD/SMT; Length: 1mm; Height: 0.5mm; Series: GRM; Radiation Hardening: No; Width: 0.02inch; RoHS Compliant: Yes; Lead Free: Lead Free; Case Code (Metric): 1005; Dielectric: X5R
footprint FP-GRM155-0_05-IPC_C
footprint FP-GRM155-0_05-MFG
footprint FP-GRM155-0_05-IPC_B
footprint FP-GRM155-0_05-IPC_A
pins: 1, 2

## EMG_R4_AFE_Channel_4_CL_4
designator CL_?, comment GRM21BR71C824KA01L
Manufacturer: Murata; Part Number: GRM21BR71C824KA01L
footprint CAPC2013X135X45ML10T25 (Chip Capacitor, 2-Leads, Body 2.00x1.25mm, IPC Low Density)
footprint CAPC2013X135X45NL10T25 (Chip Capacitor, 2-Leads, Body 2.00x1.25mm, IPC Medium Density)
footprint CAPC2013X135X45LL10T25 (Chip Capacitor, 2-Leads, Body 2.00x1.25mm, IPC High Density)
pins: 1, 2
1 alternate drawing of the same symbol

## EMG_R4_AFE_Channel_4_CU_14
designator CU_?, comment GRM155R61C104KA88D
CAP CER 0.1UF 16V X5R 0402; Tolerance: 10%; Capacitance: 100nF; Size: 0.5mm; Case Code (Imperial): 0402; Voltage: 16V; REACH SVHC: No SVHC; Packaging: Tape and Reel; Case/Package: 0402; Package Quantity: 1; Max Operating Temperature: 85°C; Voltage Rating (DC): 16V; Min Operating Temperature: -55°C; Construction: Flat; Mount: Surface Mount; Voltage Rating: 16V; Thickness: 0.022inch; Depth: 0.5mm; Termination: SMD/SMT; Length: 1mm; Height: 0.5mm; Series: GRM; Radiation Hardening: No; Width: 0.02inch; RoHS Compliant: Yes; Lead Free: Lead Free; Case Code (Metric): 1005; Dielectric: X5R
footprint FP-GRM155-0_05-IPC_C
footprint FP-GRM155-0_05-MFG
footprint FP-GRM155-0_05-IPC_B
footprint FP-GRM155-0_05-IPC_A
pins: 1, 2

## EMG_R4_AFE_Channel_4_RDD11
designator RDD?, comment AR02BTC5001
-55℃~+155℃ 50V 5kΩ 63mW Thin Film Resistor ±0.1% ±25ppm/℃ 0402 Chip Resistor - Surface Mount ROH; Manufacturer: Viking Tech; Automotive Grade: Grade 0; Power Rating: 0.0625W; Resistance: 5KΩ; Automotive: No; Device Class L1: Passive Components; Temperature Range High: +155°C; ComponentLink2URL: https://jlc-prod-smt.oss-eu-central-1.aliyuncs.com/smtDataManualFile/8590916455515316224-C5948099.pdf?response-content-disposition=attachment%3B%20filename%3DC5948099.pdf%3B%20filename%2A%3DUTF-8%27%27C5948099.pdf&x-oss-date=20260909T005947Z&x-oss-expires=1800&x-oss-security-token=CAISgAN1q6Ft5B2yfSjIr5nQJuPk2K1px%2FCSUlD8vWssT%2Bdn24bA1Tz2IHhMdHJsAOodtv0%2FmmhT6PkclqRLcbhpcmfjV%2BZHzLB8qZ1ZlUIh557b16cNrbH4M4H6aXeirtuwDsz9SNTCALjPD3nPii50x5bjaDymRCbLGJaViJlhHLN1Ow6jdmhpCctxLAlvo9NgFxm3D%2Fu2NQPwiWf9FVdhvhEG6Vly8qOi2MaRmFy8yFTx0b0SvJ%2BjYMrmPctoN9JnSdC5mfdzau3a1TJ84gRD0a5wkaVA1zbDs5bfISEIuUzebreLqY03dV4mOvdqIcMe8qigz88fk%2FfIioH6xyxKOexoSCnFTOiiupCcQLPyao9jLu6iayqViY7QaIOTqQohZmkAMwVOasAsI3Ngh4zF97Qt0cVNkXO9gWfLI8DtuMleWgprSuQcm6HD0eS19jklBdzSlusJRAJJUVBflCeKEaRNSAd3WGhEfM2%2BBt4QT30w5N2u00S8OSMIGkRi2qKWD5sagAEjtbizx3MEky1DLyI4ifPDwN%2BIGIBkc%2FLU5ksiYJgLb%2FNSRKcBK2Y93tAQPnNnijpN7M2WdzU5isSZKkB7FW67%2B%2BgPO4c85aP9mk4GMQu9DUgOdQx8TAqhYZ0He9sP4T3tbQJlqCjO4glvV5R4tQYQWhzj0BeDLU%2Bxt0Bz2hoMLyAA&x-oss-signature-version=OSS4-HMAC-SHA256&x-oss-credential=STS.NZemYP5rHp2yPvMYkyChK4Ck7%2F20260909%2Feu-central-1%2Foss%2Faliyun_v4_request&x-oss-signature=d33844123a8227daea884b89a46460a2c851f65fd65a6a4b3f09a43ff9b63656; Footprint Url: https://jlc-prod-smt.oss-eu-central-1.aliyuncs.com/smtDataManualFile/8590916455515316224-C5948099.pdf?response-content-disposition=attachment%3B%20filename%3DC5948099.pdf%3B%20filename%2A%3DUTF-8%27%27C5948099.pdf&x-oss-date=20260909T005947Z&x-oss-expires=1800&x-oss-security-token=CAISgAN1q6Ft5B2yfSjIr5nQJuPk2K1px%2FCSUlD8vWssT%2Bdn24bA1Tz2IHhMdHJsAOodtv0%2FmmhT6PkclqRLcbhpcmfjV%2BZHzLB8qZ1ZlUIh557b16cNrbH4M4H6aXeirtuwDsz9SNTCALjPD3nPii50x5bjaDymRCbLGJaViJlhHLN1Ow6jdmhpCctxLAlvo9NgFxm3D%2Fu2NQPwiWf9FVdhvhEG6Vly8qOi2MaRmFy8yFTx0b0SvJ%2BjYMrmPctoN9JnSdC5mfdzau3a1TJ84gRD0a5wkaVA1zbDs5bfISEIuUzebreLqY03dV4mOvdqIcMe8qigz88fk%2FfIioH6xyxKOexoSCnFTOiiupCcQLPyao9jLu6iayqViY7QaIOTqQohZmkAMwVOasAsI3Ngh4zF97Qt0cVNkXO9gWfLI8DtuMleWgprSuQcm6HD0eS19jklBdzSlusJRAJJUVBflCeKEaRNSAd3WGhEfM2%2BBt4QT30w5N2u00S8OSMIGkRi2qKWD5sagAEjtbizx3MEky1DLyI4ifPDwN%2BIGIBkc%2FLU5ksiYJgLb%2FNSRKcBK2Y93tAQPnNnijpN7M2WdzU5isSZKkB7FW67%2B%2BgPO4c85aP9mk4GMQu9DUgOdQx8TAqhYZ0He9sP4T3tbQJlqCjO4glvV5R4tQYQWhzj0BeDLU%2Bxt0Bz2hoMLyAA&x-oss-signature-version=OSS4-HMAC-SHA256&x-oss-credential=STS.NZemYP5rHp2yPvMYkyChK4Ck7%2F20260909%2Feu-central-1%2Foss%2Faliyun_v4_request&x-oss-signature=d33844123a8227daea884b89a46460a2c851f65fd65a6a4b3f09a43ff9b63656; RoHS: TRUE; Category: Resistors/Chip Resistor - Surface Mount; Package: AR0402; Octopart: https://octopart.com/datasheet/viking-tech/AR02BTC5001; Device Class L2: Resistors; Series: AR; Voltage Rating: 50V; Height: 0.35mm; ComponentLink2Description: Datasheet; Lead Free: Yes; Temperature Range Low: -55°C; Value: 5KΩ; Temperature: -55°C to +155°C; Ipc Land Pattern Name: RESC10050X32; Device Class L3: Chip SMD Resistors; Manufacturer Part Number: AR02BTC5001; Composition: Thick Film; Tolerance: ±0.1%; LCSC Part: C5948099
footprint FP-AC0402-MFG
footprint FP-AC0402-IPC_C
footprint FP-AC0402-IPC_B
footprint FP-AC0402-IPC_A
pins: 1, 2

## EMG_R4_AFE_Channel_4_RG_4
designator RG_?, comment RT0402BRD0780K6L
RES SMD 80.6KOHM 0.1% 1/16W 0402; Manufacturer: Yageo; Power Rating: 0.063W; Temperature Coefficient: 25 ppm/°C; Resistance: 80.6KΩ; Voltage Rating: 50V; Tolerance: 0.001; Value: 80.6KΩ; Manufacturer Part Number: RT0402BRD0780K6L; Device Class L2: Resistors; Temperature Range Low: -55°C; Device Class L3: Chip SMD Resistors; Temperature: -55°C to +155°C; Ipc Land Pattern Name: RESC10050X30; Mouser Description: Thin Film Resistors 1/16W 80.6K ohm .1% 25ppm; Footprint Url: http://www.yageo.com/exep/pages/download/literatures/PYu-R_Mount_10.pdf; Lead Free: Yes; Category: Res; Composition: Thin Film; RoHS: TRUE; Octopart: https://octopart.com/rt0402brd0780k6l-yageo-1468076; Automotive: No; ComponentLink2Description: Datasheet; Package: RT0402; Digikey Description: RES SMD 80.6KOHM 0.1% 1/16W 0402; Height: 0.35mm; Temperature Range High: +155°C; Device Class L1: Passive Components; Series: RT; ComponentLink2URL: http://www.yageo.com/documents/recent/PYu-RT_1-to-0.01_RoHS_L_9.pdf
footprint FP-RT0402-MFG
footprint FP-RT0402-IPC_C
footprint FP-RT0402-IPC_B
footprint FP-RT0402-IPC_A
pins: 1, 2

## EMG_R4_AFE_Channel_4_RGN_4
designator RGN_?, comment RT0402BRD0710KL
RES 10.0K OHM 1/16W .1% SMD 0402; Manufacturer: Yageo; Value: 10KΩ; Voltage Rating: 50V; Power Rating: 0.063W; Temperature Coefficient: 25 ppm/°C; Tolerance: 0.001; Height: 0.35mm; Ipc Land Pattern Name: RESC10050X30; Device Class L1: Passive Components; Mouser Description: Thin Film Resistors - SMD 10K ohm 0.1% 1/16W; ComponentLink2URL: http://www.yageo.com/documents/recent/PYu-RT_1-to-0.01_RoHS_L_9.pdf; Automotive: No; Series: RT; Package: RT0402; ComponentLink2Description: Datasheet; Footprint Url: http://www.yageo.com/exep/pages/download/literatures/PYu-R_Mount_10.pdf; Digikey Description: RES 10.0K OHM 1/16W .1% SMD 0402; Resistance: 10KΩ; Temperature Range High: +155°C; Device Class L3: Chip SMD Resistors; Manufacturer Part Number: RT0402BRD0710KL; Lead Free: Yes; Category: Res; Device Class L2: Resistors; RoHS: TRUE; Temperature Range Low: -55°C; Composition: Thin Film; Temperature: -55°C to +155°C; Octopart: https://octopart.com/rt0402brd0710kl-yageo-1181432
footprint FP-RT0402-MFG
footprint FP-RT0402-IPC_C
footprint FP-RT0402-IPC_B
footprint FP-RT0402-IPC_A
pins: 1, 2

## EMG_R4_AFE_Channel_4_RH_4
designator RH_?, comment ERA-2AEB2612X
RES 26.1kΩ ±0.1% 0.063W 0402; Manufacturer: PANASONIC; Max Power Dissipation: 63mW; Temperature Coefficient: 25ppm/°C; Voltage Rating: 50V; Power Rating: 62.5mW; Resistance: 26.1kR; Number of Terminations: 2; Termination: SMD/SMT; Case Code (Metric): 1005; Case/Package: 0402; RoHS Compliant: Yes; Width: 0.5mm; Max Operating Temperature: 155°C; Case Code (Imperial): 0402; Packaging: Tape and Reel; Features: Moisture Resistant; Height: 0.015inch; Length: 0.039inch; Series: ERA-2A; Resistor Type: Thin Film; Min Operating Temperature: -55°C; Tolerance: 0.1%; JLCPCB Part: C2075472
footprint FP-AC0402-IPC_A
footprint FP-AC0402-IPC_C
footprint FP-AC0402-MFG
footprint FP-AC0402-IPC_B
pins: 1, 2

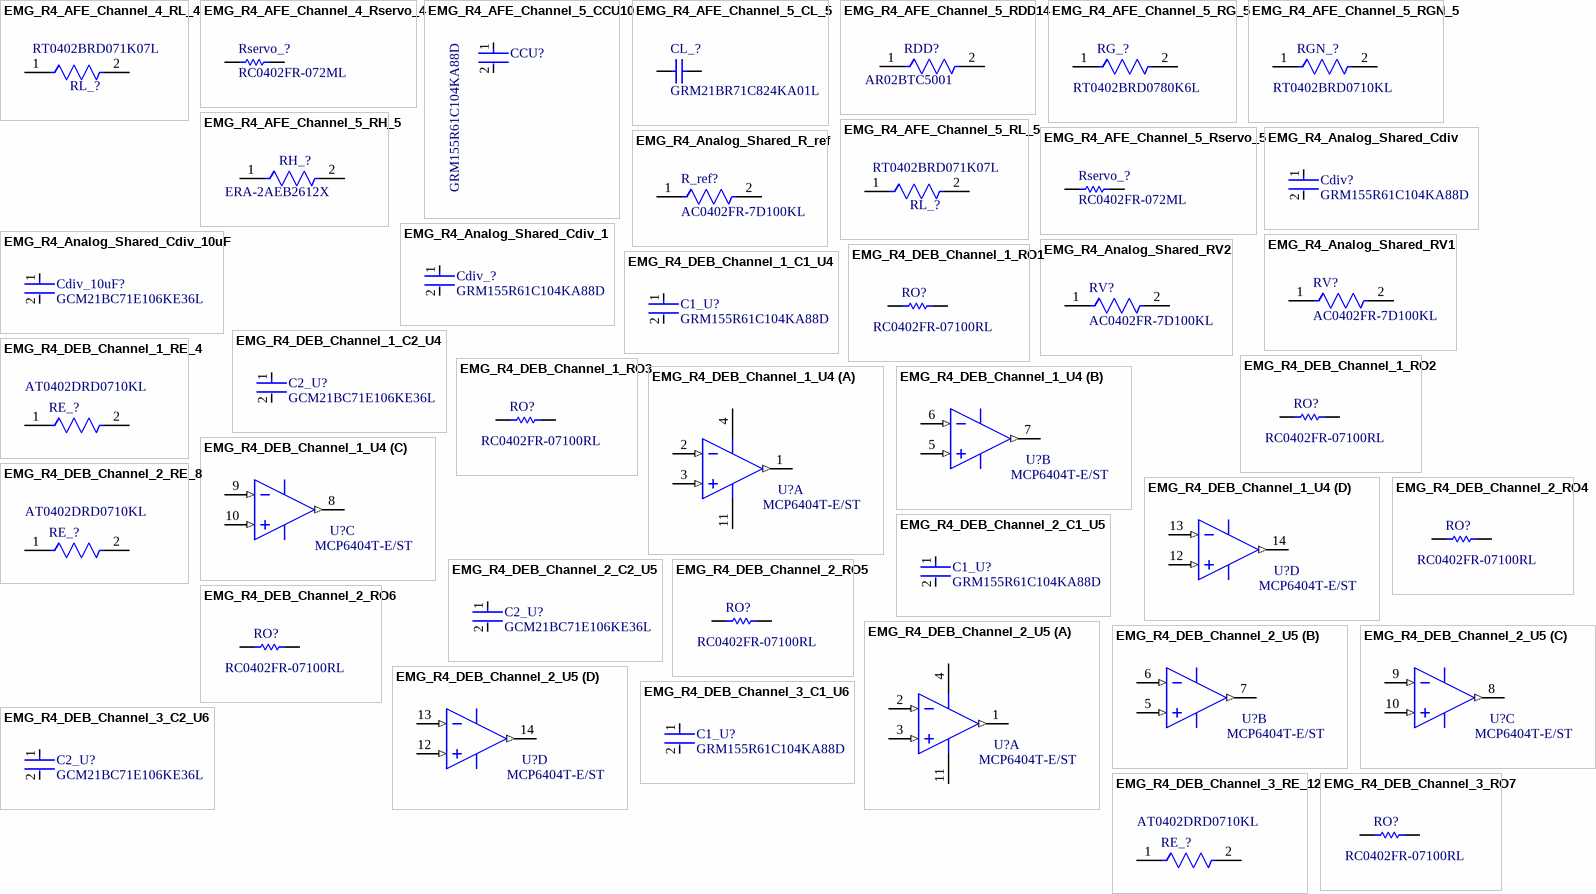
[diagram p1: symbols EMG_R4_AFE_Channel_4_RL_4 to EMG_R4_DEB_Channel_3_RO7]

## EMG_R4_AFE_Channel_4_RL_4
designator RL_?, comment RT0402BRD071K07L
RES SMD 1.07K OHM 0.1% 1/16W; Manufacturer: Yageo; Resistance: 1.07KΩ; Voltage Rating: 50V; Value: 1.07KΩ; Temperature Coefficient: 25 ppm/°C; Tolerance: 0.001; Power Rating: 0.063W; Composition: Thin Film; Height: 0.35mm; Octopart: https://octopart.com/rt0402brd071k07l-yageo-1400807; Package: RT0402; Device Class L3: Chip SMD Resistors; Manufacturer Part Number: RT0402BRD071K07L; ComponentLink2Description: Datasheet; Lead Free: Yes; Automotive: No; Device Class L1: Passive Components; Temperature Range Low: -55°C; RoHS: TRUE; Category: Res; Temperature Range High: +155°C; Mouser Description: Thin Film Resistors 1/16W 1.07K ohm .1% 25ppm; Device Class L2: Resistors; Digikey Description: RES SMD 1.07K OHM 0.1% 1/16W; Footprint Url: http://www.yageo.com/exep/pages/download/literatures/PYu-R_Mount_10.pdf; ComponentLink2URL: http://www.yageo.com/documents/recent/PYu-RT_1-to-0.01_RoHS_L_9.pdf; Ipc Land Pattern Name: RESC10050X30; Series: RT; Temperature: -55°C to +155°C
footprint FP-RT0402-MFG
footprint FP-RT0402-IPC_C
footprint FP-RT0402-IPC_B
footprint FP-RT0402-IPC_A
pins: 1, 2

## EMG_R4_AFE_Channel_4_Rservo_4
designator Rservo_?, comment RC0402FR-072ML
Manufacturer: Yageo / Phycomp; Part Number: RC0402FR-072ML
footprint RESC1005X40X25NL05T10 (Chip Resistor, 2-Leads, Body 1.00x0.50mm, IPC Medium Density)
footprint RESC1005X40X25LL05T10 (Chip Resistor, 2-Leads, Body 1.00x0.50mm, IPC High Density)
footprint RESC1005X40X25ML05T10 (Chip Resistor, 2-Leads, Body 1.00x0.50mm, IPC Low Density)
pins: 1, 2
1 alternate drawing of the same symbol

## EMG_R4_AFE_Channel_5_CCU10
designator CCU?, comment GRM155R61C104KA88D
CAP CER 0.1UF 16V X5R 0402; Tolerance: 10%; Capacitance: 100nF; Size: 0.5mm; Case Code (Imperial): 0402; Voltage: 16V; REACH SVHC: No SVHC; Packaging: Tape and Reel; Case/Package: 0402; Package Quantity: 1; Max Operating Temperature: 85°C; Voltage Rating (DC): 16V; Min Operating Temperature: -55°C; Construction: Flat; Mount: Surface Mount; Voltage Rating: 16V; Thickness: 0.022inch; Depth: 0.5mm; Termination: SMD/SMT; Length: 1mm; Height: 0.5mm; Series: GRM; Radiation Hardening: No; Width: 0.02inch; RoHS Compliant: Yes; Lead Free: Lead Free; Case Code (Metric): 1005; Dielectric: X5R
footprint FP-GRM155-0_05-IPC_C
footprint FP-GRM155-0_05-MFG
footprint FP-GRM155-0_05-IPC_B
footprint FP-GRM155-0_05-IPC_A
pins: 1, 2

## EMG_R4_AFE_Channel_5_CL_5
designator CL_?, comment GRM21BR71C824KA01L
Manufacturer: Murata; Part Number: GRM21BR71C824KA01L
footprint CAPC2013X135X45ML10T25 (Chip Capacitor, 2-Leads, Body 2.00x1.25mm, IPC Low Density)
footprint CAPC2013X135X45NL10T25 (Chip Capacitor, 2-Leads, Body 2.00x1.25mm, IPC Medium Density)
footprint CAPC2013X135X45LL10T25 (Chip Capacitor, 2-Leads, Body 2.00x1.25mm, IPC High Density)
pins: 1, 2
1 alternate drawing of the same symbol

## EMG_R4_AFE_Channel_5_RDD14
designator RDD?, comment AR02BTC5001
-55℃~+155℃ 50V 5kΩ 63mW Thin Film Resistor ±0.1% ±25ppm/℃ 0402 Chip Resistor - Surface Mount ROH; Manufacturer: Viking Tech; Automotive Grade: Grade 0; Power Rating: 0.0625W; Resistance: 5KΩ; Automotive: No; Device Class L1: Passive Components; Temperature Range High: +155°C; ComponentLink2URL: https://jlc-prod-smt.oss-eu-central-1.aliyuncs.com/smtDataManualFile/8590916455515316224-C5948099.pdf?response-content-disposition=attachment%3B%20filename%3DC5948099.pdf%3B%20filename%2A%3DUTF-8%27%27C5948099.pdf&x-oss-date=20260909T005947Z&x-oss-expires=1800&x-oss-security-token=CAISgAN1q6Ft5B2yfSjIr5nQJuPk2K1px%2FCSUlD8vWssT%2Bdn24bA1Tz2IHhMdHJsAOodtv0%2FmmhT6PkclqRLcbhpcmfjV%2BZHzLB8qZ1ZlUIh557b16cNrbH4M4H6aXeirtuwDsz9SNTCALjPD3nPii50x5bjaDymRCbLGJaViJlhHLN1Ow6jdmhpCctxLAlvo9NgFxm3D%2Fu2NQPwiWf9FVdhvhEG6Vly8qOi2MaRmFy8yFTx0b0SvJ%2BjYMrmPctoN9JnSdC5mfdzau3a1TJ84gRD0a5wkaVA1zbDs5bfISEIuUzebreLqY03dV4mOvdqIcMe8qigz88fk%2FfIioH6xyxKOexoSCnFTOiiupCcQLPyao9jLu6iayqViY7QaIOTqQohZmkAMwVOasAsI3Ngh4zF97Qt0cVNkXO9gWfLI8DtuMleWgprSuQcm6HD0eS19jklBdzSlusJRAJJUVBflCeKEaRNSAd3WGhEfM2%2BBt4QT30w5N2u00S8OSMIGkRi2qKWD5sagAEjtbizx3MEky1DLyI4ifPDwN%2BIGIBkc%2FLU5ksiYJgLb%2FNSRKcBK2Y93tAQPnNnijpN7M2WdzU5isSZKkB7FW67%2B%2BgPO4c85aP9mk4GMQu9DUgOdQx8TAqhYZ0He9sP4T3tbQJlqCjO4glvV5R4tQYQWhzj0BeDLU%2Bxt0Bz2hoMLyAA&x-oss-signature-version=OSS4-HMAC-SHA256&x-oss-credential=STS.NZemYP5rHp2yPvMYkyChK4Ck7%2F20260909%2Feu-central-1%2Foss%2Faliyun_v4_request&x-oss-signature=d33844123a8227daea884b89a46460a2c851f65fd65a6a4b3f09a43ff9b63656; Footprint Url: https://jlc-prod-smt.oss-eu-central-1.aliyuncs.com/smtDataManualFile/8590916455515316224-C5948099.pdf?response-content-disposition=attachment%3B%20filename%3DC5948099.pdf%3B%20filename%2A%3DUTF-8%27%27C5948099.pdf&x-oss-date=20260909T005947Z&x-oss-expires=1800&x-oss-security-token=CAISgAN1q6Ft5B2yfSjIr5nQJuPk2K1px%2FCSUlD8vWssT%2Bdn24bA1Tz2IHhMdHJsAOodtv0%2FmmhT6PkclqRLcbhpcmfjV%2BZHzLB8qZ1ZlUIh557b16cNrbH4M4H6aXeirtuwDsz9SNTCALjPD3nPii50x5bjaDymRCbLGJaViJlhHLN1Ow6jdmhpCctxLAlvo9NgFxm3D%2Fu2NQPwiWf9FVdhvhEG6Vly8qOi2MaRmFy8yFTx0b0SvJ%2BjYMrmPctoN9JnSdC5mfdzau3a1TJ84gRD0a5wkaVA1zbDs5bfISEIuUzebreLqY03dV4mOvdqIcMe8qigz88fk%2FfIioH6xyxKOexoSCnFTOiiupCcQLPyao9jLu6iayqViY7QaIOTqQohZmkAMwVOasAsI3Ngh4zF97Qt0cVNkXO9gWfLI8DtuMleWgprSuQcm6HD0eS19jklBdzSlusJRAJJUVBflCeKEaRNSAd3WGhEfM2%2BBt4QT30w5N2u00S8OSMIGkRi2qKWD5sagAEjtbizx3MEky1DLyI4ifPDwN%2BIGIBkc%2FLU5ksiYJgLb%2FNSRKcBK2Y93tAQPnNnijpN7M2WdzU5isSZKkB7FW67%2B%2BgPO4c85aP9mk4GMQu9DUgOdQx8TAqhYZ0He9sP4T3tbQJlqCjO4glvV5R4tQYQWhzj0BeDLU%2Bxt0Bz2hoMLyAA&x-oss-signature-version=OSS4-HMAC-SHA256&x-oss-credential=STS.NZemYP5rHp2yPvMYkyChK4Ck7%2F20260909%2Feu-central-1%2Foss%2Faliyun_v4_request&x-oss-signature=d33844123a8227daea884b89a46460a2c851f65fd65a6a4b3f09a43ff9b63656; RoHS: TRUE; Category: Resistors/Chip Resistor - Surface Mount; Package: AR0402; Octopart: https://octopart.com/datasheet/viking-tech/AR02BTC5001; Device Class L2: Resistors; Series: AR; Voltage Rating: 50V; Height: 0.35mm; ComponentLink2Description: Datasheet; Lead Free: Yes; Temperature Range Low: -55°C; Value: 5KΩ; Temperature: -55°C to +155°C; Ipc Land Pattern Name: RESC10050X32; Device Class L3: Chip SMD Resistors; Manufacturer Part Number: AR02BTC5001; Composition: Thick Film; Tolerance: ±0.1%; LCSC Part: C5948099
footprint FP-AC0402-MFG
footprint FP-AC0402-IPC_C
footprint FP-AC0402-IPC_B
footprint FP-AC0402-IPC_A
pins: 1, 2